# EAGLE library part ECE477_PARTS_LIBRARY_LCD (library ECE477_parts_library)
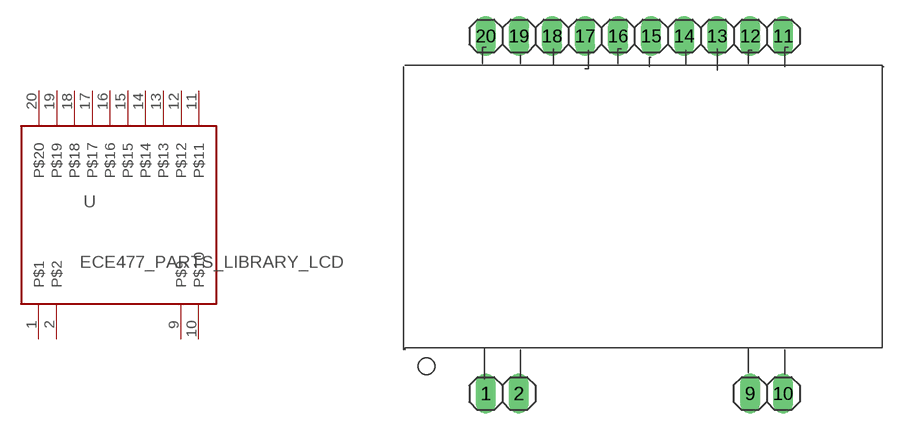
[diagram p1: symbol with the pads of ECE477_PARTS_LIBRARY_LCDTHROUGHHOLE; footprint ECE477_PARTS_LIBRARY_LCDTHROUGHHOLE]

Designator prefix -

## ECE477_PARTS_LIBRARY_LCD  [ECE477_PARTS_LIBRARY_LCDTHROUGHHOLE]
1  P$1
2  P$2
9  P$9
10  P$10
11  P$11
12  P$12
13  P$13
14  P$14
15  P$15
16  P$16
17  P$17
18  P$18
19  P$19
20  P$20

## Footprint ECE477_PARTS_LIBRARY_LCDTHROUGHHOLE (pad centres in mm)
drill 1.016 long: 1 -11.432,-12.785; 2 -8.892,-12.785; 9 8.884,-12.78; 10 11.424,-12.78; 11 11.434,14.694; 12 8.894,14.694; 13 6.354,14.694; 14 3.814,14.694; 15 1.274,14.694; 16 -1.266,14.694; 17 -3.806,14.694; 18 -6.346,14.694; 19 -8.886,14.694; 20 -11.426,14.694